# Altium schematic symbol library IP6826.SchLib: 1 symbol
Pins are listed as number, name and electrical type; pins without a type are passive.

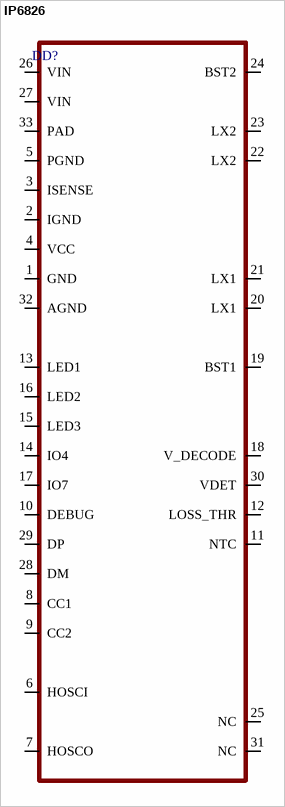
[diagram p0: symbol IP6826]

## IP6826
designator DD?
pins: 1 GND, 2 IGND, 3 ISENSE, 4 VCC, 5 PGND, 6 HOSCI, 7 HOSCO, 8 CC1, 9 CC2, 10 DEBUG, 11 NTC, 12 LOSS_THR, 13 LED1, 14 IO4, 15 LED3, 16 LED2, 17 IO7, 18 V_DECODE, 19 BST1, 20 LX1, 21 LX1, 22 LX2, 23 LX2, 24 BST2, 25 NC, 26 VIN, 27 VIN, 28 DM, 29 DP, 30 VDET, 31 NC, 32 AGND, 33 PAD